# EAGLE library part BNO080 (library BNO080)
Imu Accel/Gyro/Mag I2c 32bit Check availability <https://pricing.snapeda.com/parts/BNO080/CEVA%20Technologies%2C%20Inc./view-part?ref=eda>
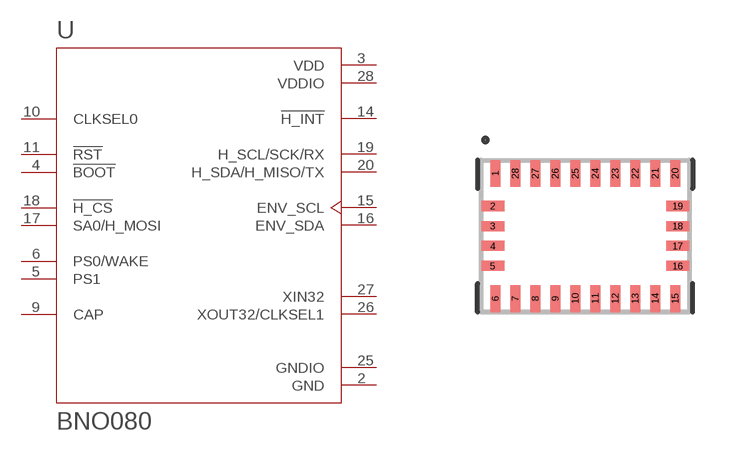
[diagram p0: symbol with the pads of IC_BNO080; footprint IC_BNO080]

Designator prefix U

## BNO080 (Availability: In Stock; Description: BNO080 series Accelerometer, Gyroscope, Magnetometer Sensor Evaluation Board; MF: CEVA Technologies, Inc.; MP: BNO080; Package: None; Price: None; Purchase-URL: https://pricing.snapeda.com/search/part/BNO080/?ref=eda)  [IC_BNO080]
2  GND  pwr
3  VDD  pwr
4  !BOOT  in
5  PS1  in
6  PS0/WAKE  in
9  CAP  pas
10  CLKSEL0  in
11  !RST  in
14  !H_INT  out
15  ENV_SCL
16  ENV_SDA
17  SA0/H_MOSI  in
18  !H_CS  in
19  H_SCL/SCK/RX
20  H_SDA/H_MISO/TX
25  GNDIO  pwr
26  XOUT32/CLKSEL1  out
27  XIN32  in
28  VDDIO  pwr

## Footprint IC_BNO080 (pad centres in mm)
smd 0.25 x 0.675: 1 -2.25,1.562; 6 -2.25,-1.562; 7 -1.75,-1.562; 8 -1.25,-1.562; 9 -0.75,-1.562; 10 -0.25,-1.562; 11 0.25,-1.562; 12 0.75,-1.562; 13 1.25,-1.562; 14 1.75,-1.562; 15 2.25,-1.562; 20 2.25,1.562; 21 1.75,1.562; 22 1.25,1.562; 23 0.75,1.562; 24 0.25,1.562; 25 -0.25,1.562; 26 -0.75,1.562; 27 -1.25,1.562; 28 -1.75,1.562
smd 0.575 x 0.25: 2 -2.312,0.75; 3 -2.312,0.25; 4 -2.312,-0.25; 5 -2.312,-0.75; 16 2.312,-0.75; 17 2.312,-0.25; 18 2.312,0.25; 19 2.312,0.75